# EAGLE library part 692122030100 (library USB_c_conn)
WR-COM USB 3.0 HORIZONTAL SMT TYPE A=>Code : Con-I-O_COM_USB-3.0_A_692122030100 <http://katalog.we-online.de/media/images/eican/Con-I-O_COM_USB-3.0_A_692122030100_pf2.jpg> Details see: http://katalog.we-online.de/en/em/COM_3_0_SMT_TYPE_A_HORIZONTAL/692122030100 Created 2014-07-09, Karrer Zheng 2014 (C) Würth Elektronik
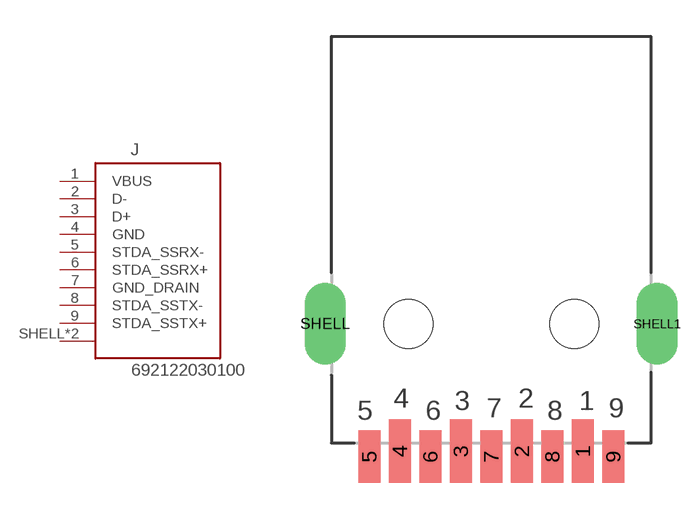
[diagram p82: symbol with the pads of 692122030100; footprint 692122030100]

Designator prefix J

## 692122030100  [692122030100]
1  VBUS
2  D-
3  D+
4  GND
5  STDA_SSRX-
6  STDA_SSRX+
7  GND_DRAIN
8  STDA_SSTX-
9  STDA_SSTX+
SHELL  SHIELD
SHELL1  SHIELD

## Footprint 692122030100 (pad centres in mm)
WR-COM USB 3.0 HORIZONTAL SMT TYPE A
smd 0.9 x 2.6: 1 3.75,-5.22; 2 1.25,-5.22; 3 -1.25,-5.22; 4 -3.75,-5.22
smd 0.9 x 2.15: 5 -5,-5.445; 6 -2.5,-5.445; 7 0,-5.445; 8 2.5,-5.445; 9 5,-5.445
drill 1.12 long: SHELL -6.8,0; SHELL1 6.8,0
hole 2 at 3.4,0
hole 2 at -3.4,0